# Altium schematic symbol library WE-ExB.SchLib: 5 symbols
Pins are listed as number, name and electrical type; pins without a type are passive.

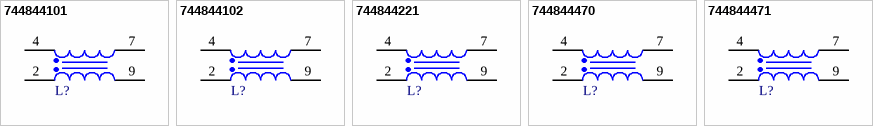
[diagram p0: symbols 744844101 to 744844471]

## 744844101
designator L?, comment 100µH  (value not drawn)
WE-ExB THT Common Mode Power Line Choke, Type L, 100µH, 14A, 6mΩ; Manufacturer Part Number: 744844101; Manufacturer: Wurth Elektronik; Case/Size Code: Type L; Insulation Test Voltage (AC): 1500V; Rated Voltage (AC): 250V; ComponentLink1Description: Manufacturer Link; ComponentLink1URL: https://www.we-online.com/redexpert/article/744844101?ad; ComponentLink2Description: Datasheet; ComponentLink2URL: https://www.we-online.com/redexpert/spec/744844101?ad; Category: Common Mode Chokes; Match Code: WE-ExB; Mount: Through Hole; Operating Temperature Max: 125°C; Operating Temperature Min: -40°C; Packaging: Tray; Length: 28mm; Width: 18.5mm; Height: 33mm; DC Resistance Max: 6mΩ; Inductance: 100µH; Rated Current: 14A
footprint WE-ExB_Type L
pins: 2, 4, 7, 9

## 744844102
designator L?, comment 1000µH  (value not drawn)
WE-ExB THT Common Mode Power Line Choke, Type L, 1000µH, 4.5A, 42mΩ; Manufacturer Part Number: 744844102; Manufacturer: Wurth Elektronik; Case/Size Code: Type L; Insulation Test Voltage (AC): 1500V; Rated Voltage (AC): 250V; ComponentLink1Description: Manufacturer Link; ComponentLink1URL: https://www.we-online.com/redexpert/article/744844102?ad; ComponentLink2Description: Datasheet; ComponentLink2URL: https://www.we-online.com/redexpert/spec/744844102?ad; Category: Common Mode Chokes; Match Code: WE-ExB; Mount: Through Hole; Operating Temperature Max: 125°C; Operating Temperature Min: -40°C; Packaging: Tray; Length: 28mm; Width: 18.5mm; Height: 33mm; DC Resistance Max: 42mΩ; Inductance: 1000µH; Rated Current: 4.5A
footprint WE-ExB_Type L
pins: 2, 4, 7, 9

## 744844221
designator L?, comment 220µH  (value not drawn)
WE-ExB THT Common Mode Power Line Choke, Type L, 220µH, 12A, 9mΩ; Manufacturer Part Number: 744844221; Manufacturer: Wurth Elektronik; Case/Size Code: Type L; Insulation Test Voltage (AC): 1500V; Rated Voltage (AC): 250V; ComponentLink1Description: Manufacturer Link; ComponentLink1URL: https://www.we-online.com/redexpert/article/744844221?ad; ComponentLink2Description: Datasheet; ComponentLink2URL: https://www.we-online.com/redexpert/spec/744844221?ad; Category: Common Mode Chokes; Match Code: WE-ExB; Mount: Through Hole; Operating Temperature Max: 125°C; Operating Temperature Min: -40°C; Packaging: Tray; Length: 28mm; Width: 18.5mm; Height: 33mm; DC Resistance Max: 9mΩ; Inductance: 220µH; Rated Current: 12A
footprint WE-ExB_Type L
pins: 2, 4, 7, 9

## 744844470
designator L?, comment 47µH  (value not drawn)
WE-ExB THT Common Mode Power Line Choke, Type L, 47µH, 15A, 4.6mΩ; Manufacturer Part Number: 744844470; Manufacturer: Wurth Elektronik; Case/Size Code: Type L; Insulation Test Voltage (AC): 1500V; Rated Voltage (AC): 250V; ComponentLink1Description: Manufacturer Link; ComponentLink1URL: https://www.we-online.com/redexpert/article/744844470?ad; ComponentLink2Description: Datasheet; ComponentLink2URL: https://www.we-online.com/redexpert/spec/744844470?ad; Category: Common Mode Chokes; Match Code: WE-ExB; Mount: Through Hole; Operating Temperature Max: 125°C; Operating Temperature Min: -40°C; Packaging: Tray; Length: 28mm; Width: 18.5mm; Height: 33mm; DC Resistance Max: 4.6mΩ; Inductance: 47µH; Rated Current: 15A
footprint WE-ExB_Type L
pins: 2, 4, 7, 9

## 744844471
designator L?, comment 470µH  (value not drawn)
WE-ExB THT Common Mode Power Line Choke, Type L, 470µH, 9A, 16mΩ; Manufacturer Part Number: 744844471; Manufacturer: Wurth Elektronik; Case/Size Code: Type L; Insulation Test Voltage (AC): 1500V; Rated Voltage (AC): 250V; ComponentLink1Description: Manufacturer Link; ComponentLink1URL: https://www.we-online.com/redexpert/article/744844471?ad; ComponentLink2Description: Datasheet; ComponentLink2URL: https://www.we-online.com/redexpert/spec/744844471?ad; Category: Common Mode Chokes; Match Code: WE-ExB; Mount: Through Hole; Operating Temperature Max: 125°C; Operating Temperature Min: -40°C; Packaging: Tray; Length: 28mm; Width: 18.5mm; Height: 33mm; DC Resistance Max: 16mΩ; Inductance: 470µH; Rated Current: 9A
footprint WE-ExB_Type L
pins: 2, 4, 7, 9